# Altium integrated library Lattice FPGA XP2.IntLib: 160 symbols (part 2 of 34)
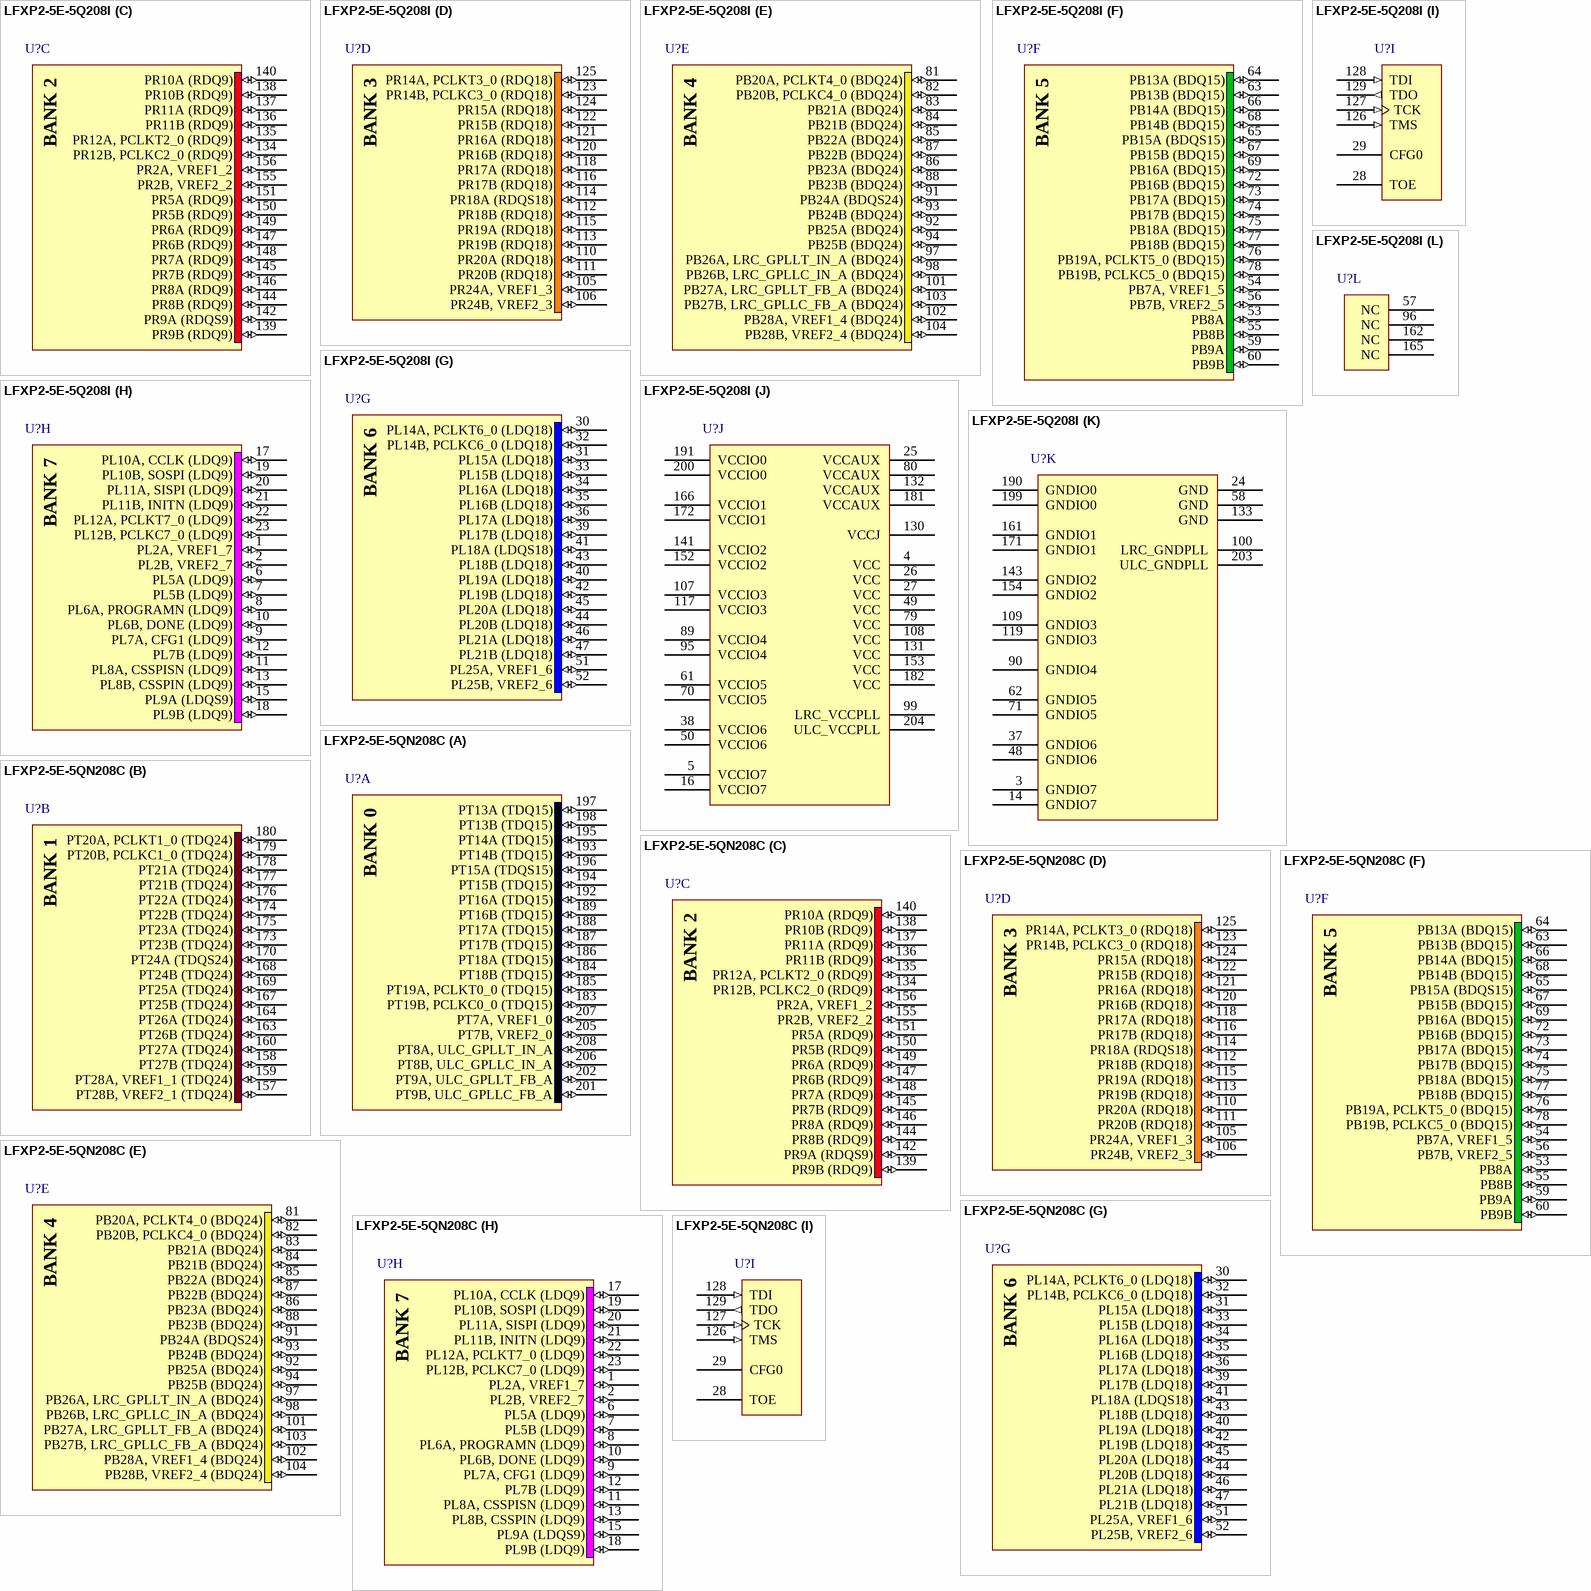
[diagram p107: symbols LFXP2-5E-5Q208I to LFXP2-5E-5QN208C]

## LFXP2-5E-5Q208I
designator U?
XP2, 1.2V FPGA, 146 I/Os, 5K LUTs, 208-Pin PQFP, Speed Grade 5, Industrial Grade; Published: 18-Jun-2008; DatasheetVersion: ver01.8, Jun-2008; PackageVersion: ver01.6 Apr-2008; PackageReference: PQFP208; Publisher: Altium Limited; PackageDescription: 208-Pin Plastic Quad Flat Pack (PQFP208); Code_JEDEC: MO-143-FAI; ComponentLink1Description: Manufacturer Link; ComponentLink1URL: http://www.latticesemi.com/products/fpga/xp2/index.cfm; ComponentLink2Description: Datasheet; ComponentLink2URL: http://www.latticesemi.com/documents/DS1009.pdf; ComponentLink3Description: Packaging Specification; ComponentLink3URL: http://www.latticesemi.com/lit/docs/package/pkg.pdf
footprint PQFP208_N (Shrink QFP, 208-Leads, Body 28x28mm, Pitch 0.5mm, IPC Medium Density)
footprint PQFP208_L (Shrink QFP, 208-Leads, Body 28x28mm, Pitch 0.5mm, IPC High Density)
footprint PQFP208_M (Shrink QFP, 208-Leads, Body 28x28mm, Pitch 0.5mm, IPC Low Density)
3D model LFXP2-5E-Q208 (208-Pin Plastic Quad Flat Pack (PQFP208))
part A pins: 183 PT19B, PCLKC0_0 (TDQ15) (io), 184 PT18B (TDQ15) (io), 185 PT19A, PCLKT0_0 (TDQ15) (io), 186 PT18A (TDQ15) (io), 187 PT17B (TDQ15) (io), 188 PT17A (TDQ15) (io), 189 PT16B (TDQ15) (io), 192 PT16A (TDQ15) (io), 193 PT14B (TDQ15) (io), 194 PT15B (TDQ15) (io), 195 PT14A (TDQ15) (io), 196 PT15A (TDQS15) (io), 197 PT13A (TDQ15) (io), 198 PT13B (TDQ15) (io), 201 PT9B, ULC_GPLLC_FB_A (io), 202 PT9A, ULC_GPLLT_FB_A (io), 205 PT7B, VREF2_0 (io), 206 PT8B, ULC_GPLLC_IN_A (io), 207 PT7A, VREF1_0 (io), 208 PT8A, ULC_GPLLT_IN_A (io)
part B pins: 157 PT28B, VREF2_1 (TDQ24) (io), 158 PT27B (TDQ24) (io), 159 PT28A, VREF1_1 (TDQ24) (io), 160 PT27A (TDQ24) (io), 163 PT26B (TDQ24) (io), 164 PT26A (TDQ24) (io), 167 PT25B (TDQ24) (io), 168 PT24B (TDQ24) (io), 169 PT25A (TDQ24) (io), 170 PT24A (TDQS24) (io), 173 PT23B (TDQ24) (io), 174 PT22B (TDQ24) (io), 175 PT23A (TDQ24) (io), 176 PT22A (TDQ24) (io), 177 PT21B (TDQ24) (io), 178 PT21A (TDQ24) (io), 179 PT20B, PCLKC1_0 (TDQ24) (io), 180 PT20A, PCLKT1_0 (TDQ24) (io)
part C pins: 134 PR12B, PCLKC2_0 (RDQ9) (io), 135 PR12A, PCLKT2_0 (RDQ9) (io), 136 PR11B (RDQ9) (io), 137 PR11A (RDQ9) (io), 138 PR10B (RDQ9) (io), 139 PR9B (RDQ9) (io), 140 PR10A (RDQ9) (io), 142 PR9A (RDQS9) (io), 144 PR8B (RDQ9) (io), 145 PR7B (RDQ9) (io), 146 PR8A (RDQ9) (io), 147 PR6B (RDQ9) (io), 148 PR7A (RDQ9) (io), 149 PR6A (RDQ9) (io), 150 PR5B (RDQ9) (io), 151 PR5A (RDQ9) (io), 155 PR2B, VREF2_2 (io), 156 PR2A, VREF1_2 (io)
part D pins: 105 PR24A, VREF1_3 (io), 106 PR24B, VREF2_3 (io), 110 PR20A (RDQ18) (io), 111 PR20B (RDQ18) (io), 112 PR18B (RDQ18) (io), 113 PR19B (RDQ18) (io), 114 PR18A (RDQS18) (io), 115 PR19A (RDQ18) (io), 116 PR17B (RDQ18) (io), 118 PR17A (RDQ18) (io), 120 PR16B (RDQ18) (io), 121 PR16A (RDQ18) (io), 122 PR15B (RDQ18) (io), 123 PR14B, PCLKC3_0 (RDQ18) (io), 124 PR15A (RDQ18) (io), 125 PR14A, PCLKT3_0 (RDQ18) (io)
part E pins: 81 PB20A, PCLKT4_0 (BDQ24) (io), 82 PB20B, PCLKC4_0 (BDQ24) (io), 83 PB21A (BDQ24) (io), 84 PB21B (BDQ24) (io), 85 PB22A (BDQ24) (io), 86 PB23A (BDQ24) (io), 87 PB22B (BDQ24) (io), 88 PB23B (BDQ24) (io), 91 PB24A (BDQS24) (io), 92 PB25A (BDQ24) (io), 93 PB24B (BDQ24) (io), 94 PB25B (BDQ24) (io), 97 PB26A, LRC_GPLLT_IN_A (BDQ24) (io), 98 PB26B, LRC_GPLLC_IN_A (BDQ24) (io), 101 PB27A, LRC_GPLLT_FB_A (BDQ24) (io), 102 PB28A, VREF1_4 (BDQ24) (io), 103 PB27B, LRC_GPLLC_FB_A (BDQ24) (io), 104 PB28B, VREF2_4 (BDQ24) (io)
part F pins: 53 PB8A (io), 54 PB7A, VREF1_5 (io), 55 PB8B (io), 56 PB7B, VREF2_5 (io), 59 PB9A (io), 60 PB9B (io), 63 PB13B (BDQ15) (io), 64 PB13A (BDQ15) (io), 65 PB15A (BDQS15) (io), 66 PB14A (BDQ15) (io), 67 PB15B (BDQ15) (io), 68 PB14B (BDQ15) (io), 69 PB16A (BDQ15) (io), 72 PB16B (BDQ15) (io), 73 PB17A (BDQ15) (io), 74 PB17B (BDQ15) (io), 75 PB18A (BDQ15) (io), 76 PB19A, PCLKT5_0 (BDQ15) (io), 77 PB18B (BDQ15) (io), 78 PB19B, PCLKC5_0 (BDQ15) (io)
part G pins: 30 PL14A, PCLKT6_0 (LDQ18) (io), 31 PL15A (LDQ18) (io), 32 PL14B, PCLKC6_0 (LDQ18) (io), 33 PL15B (LDQ18) (io), 34 PL16A (LDQ18) (io), 35 PL16B (LDQ18) (io), 36 PL17A (LDQ18) (io), 39 PL17B (LDQ18) (io), 40 PL19A (LDQ18) (io), 41 PL18A (LDQS18) (io), 42 PL19B (LDQ18) (io), 43 PL18B (LDQ18) (io), 44 PL20B (LDQ18) (io), 45 PL20A (LDQ18) (io), 46 PL21A (LDQ18) (io), 47 PL21B (LDQ18) (io), 51 PL25A, VREF1_6 (io), 52 PL25B, VREF2_6 (io)
part H pins: 1 PL2A, VREF1_7 (io), 2 PL2B, VREF2_7 (io), 6 PL5A (LDQ9) (io), 7 PL5B (LDQ9) (io), 8 PL6A, PROGRAMN (LDQ9) (io), 9 PL7A, CFG1 (LDQ9) (io), 10 PL6B, DONE (LDQ9) (io), 11 PL8A, CSSPISN (LDQ9) (io), 12 PL7B (LDQ9) (io), 13 PL8B, CSSPIN (LDQ9) (io), 15 PL9A (LDQS9) (io), 17 PL10A, CCLK (LDQ9) (io), 18 PL9B (LDQ9) (io), 19 PL10B, SOSPI (LDQ9) (io), 20 PL11A, SISPI (LDQ9) (io), 21 PL11B, INITN (LDQ9) (io), 22 PL12A, PCLKT7_0 (LDQ9) (io), 23 PL12B, PCLKC7_0 (LDQ9) (io)
part I pins: 28 TOE, 29 CFG0, 126 TMS (in), 127 TCK (in), 128 TDI (in), 129 TDO (out)
part J pins: 4 VCC (power), 5 VCCIO7 (power), 16 VCCIO7 (power), 25 VCCAUX (power), 26 VCC (power), 27 VCC (power), 38 VCCIO6 (power), 49 VCC (power), 50 VCCIO6 (power), 61 VCCIO5 (power), 70 VCCIO5 (power), 79 VCC (power), 80 VCCAUX (power), 89 VCCIO4 (power), 95 VCCIO4 (power), 99 LRC_VCCPLL (power), 107 VCCIO3 (power), 108 VCC (power), 117 VCCIO3 (power), 130 VCCJ (power), 131 VCC (power), 132 VCCAUX (power), 141 VCCIO2 (power), 152 VCCIO2 (power), 153 VCC (power), 166 VCCIO1 (power), 172 VCCIO1 (power), 181 VCCAUX (power), 182 VCC (power), 191 VCCIO0 (power), 200 VCCIO0 (power), 204 ULC_VCCPLL (power)
part K pins: 3 GNDIO7 (power), 14 GNDIO7 (power), 24 GND (power), 37 GNDIO6 (power), 48 GNDIO6 (power), 58 GND (power), 62 GNDIO5 (power), 71 GNDIO5 (power), 90 GNDIO4 (power), 100 LRC_GNDPLL (power), 109 GNDIO3 (power), 119 GNDIO3 (power), 133 GND (power), 143 GNDIO2 (power), 154 GNDIO2 (power), 161 GNDIO1 (power), 171 GNDIO1 (power), 190 GNDIO0 (power), 199 GNDIO0 (power), 203 ULC_GNDPLL (power)
part L pins: 57 NC, 96 NC, 162 NC, 165 NC
part A text: BANK 0
part B text: BANK 1
part C text: BANK 2
part D text: BANK 3
part E text: BANK 4
part F text: BANK 5
part G text: BANK 6
part H text: BANK 7

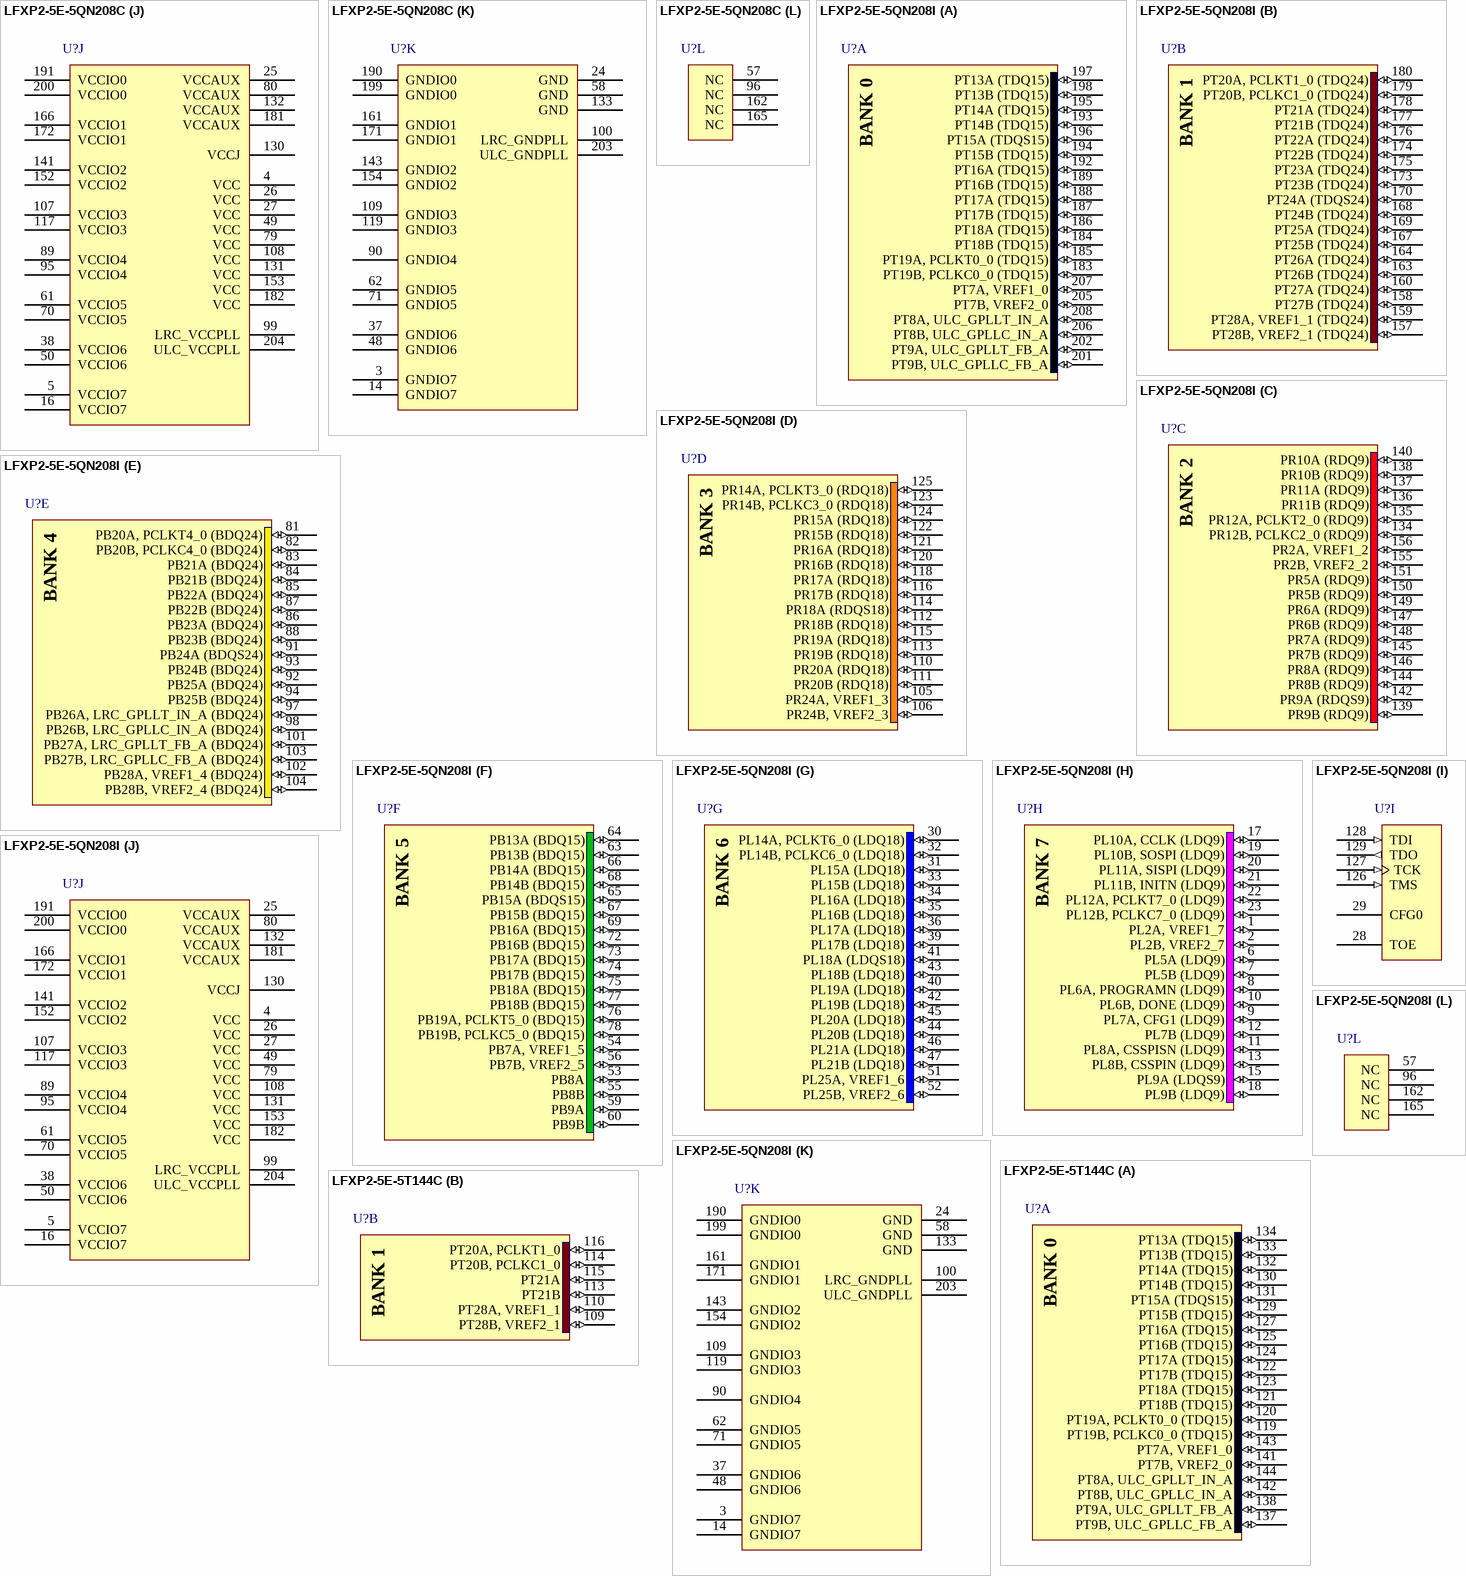
[diagram p7: symbols LFXP2-5E-5QN208C to LFXP2-5E-5T144C]